# Altium schematic symbol library ga2o3_temp_cb.SchLib: 2 symbols
Pins are listed as number, name and electrical type; pins without a type are passive.

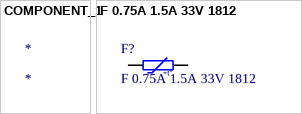
[diagram p0: symbols COMPONENT_1 to F 0.75A 1.5A 33V 1812]

## COMPONENT_1
designator *

## F 0.75A 1.5A 33V 1812
designator F?
SMD Resettable Fuse, PPTC, 1812 (4532 Metric), SMD1812, 33 VDC, 750 mA, 1.5 A, 200 ms; Manufacturer: Yageo Group; Manufacturer Part Number: SMD1812B075TF/33; Hold Current: 750mA; Value: 100mΩ; Supplier: Avnet; Supplier Part Number: 65AK0519; RoHS: Compliant; Category: Resistors; Stock: 1000; Pricing: 1=0.144, 10=0.109 (USD); Height: 1.55mm; Lifecycle Status: Production; Max Operating Temperature: 85°C; Min Operating Temperature: -40°C; Mounting Technology: Surface Mount; Number of Terminals: 2; REACH SVHC: Yes; Trip Current: 1.5A; Width: 3.41mm; Working Voltage: 33V; ComponentLink1URL: https://datasheet.octopart.com:443/SMD1812B075TF-33-Yageo-datasheet-182189743.pdf?src-supplier=IHS; ComponentLink1Description: https://datasheet.octopart.com:443/SMD1812B075TF-33-Yageo-datasheet-182189743.pdf?src-supplier=IHS; ComponentLink2URL: https://datasheet.octopart.com:443/SMD1812B075TF-33-Yageo-Group-datasheet-188692425.pdf?src-supplier=Future+Electronics; ComponentLink2Description: https://datasheet.octopart.com:443/SMD1812B075TF-33-Yageo-Group-datasheet-188692425.pdf?src-supplier=Future+Electronics; ComponentLink3URL: https://datasheet.octopart.com:443/SMD1812B075TF-33-Yageo-datasheet-159606597.pdf?src-supplier=Future+Electronics; ComponentLink3Description: https://datasheet.octopart.com:443/SMD1812B075TF-33-Yageo-datasheet-159606597.pdf?src-supplier=Future+Electronics; ComponentLink4URL: https://datasheet.octopart.com:443/SMD1812B075TF-33-Yageo-datasheet-136880014.pdf?src-supplier=Future+Electronics; ComponentLink4Description: https://datasheet.octopart.com:443/SMD1812B075TF-33-Yageo-datasheet-136880014.pdf?src-supplier=Future+Electronics; ComponentLink5URL: http://sigma.octopart.com:80/conflict_mineral_statement/Yageo-company-3.pdf?src-supplier=Compliance+Statements; ComponentLink5Description: http://sigma.octopart.com:80/conflict_mineral_statement/Yageo-company-3.pdf?src-supplier=Compliance+Statements; ComponentLink6URL: http://sigma.octopart.com:80/rohs_statement/Yageo-company-2.pdf?src-supplier=Compliance+Statements; ComponentLink6Description: http://sigma.octopart.com:80/rohs_statement/Yageo-company-2.pdf?src-supplier=Compliance+Statements
footprint FUSE_SMD1812B075TF/33
pins: 1, 2
text: +t°